# Altium footprint library PhilFootprint.PcbLib: 6 footprints
Each footprint in its own frame and in the unit in brackets; x right, y up, seen from the top. Pads: shape width x height; smd on the part's side, far side on the other; paste and mask are expansions set on the pad; w line width, h text height; cw(c..) or ccw(c..) is an arc to the next point about the centre after c.
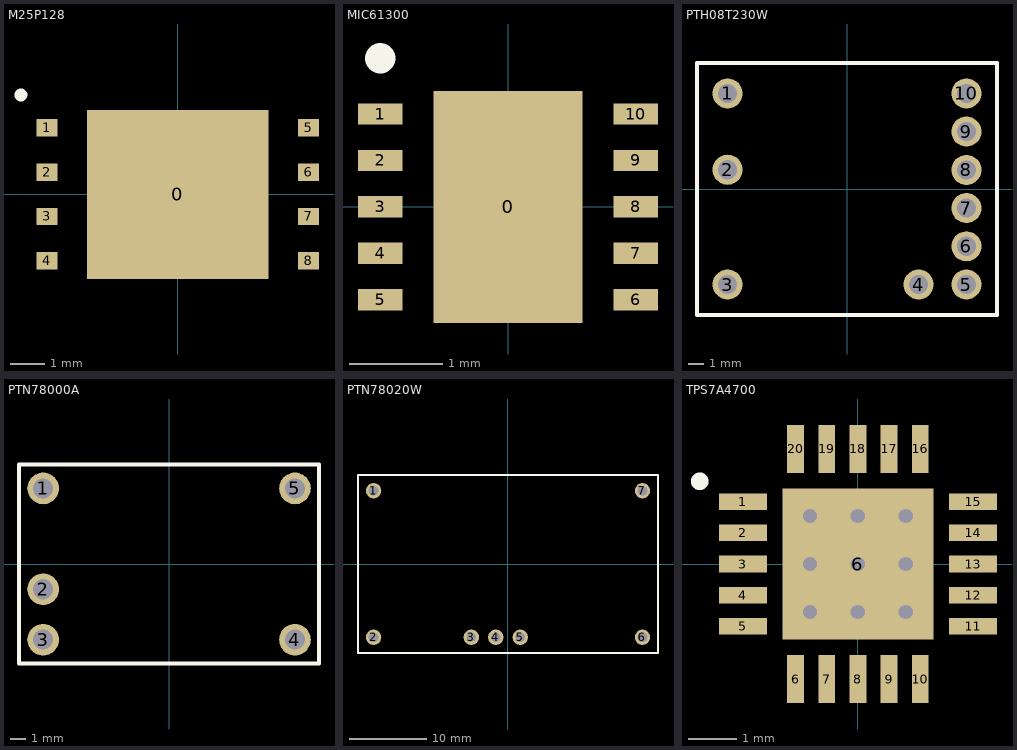
[diagram p0: the footprints below, top view; thin cyan lines are the x and y axes]

## M25P128 [mm]
pads (9):
  rect 5.2x4.85 smd: 0(0,0)
  rect 0.6x0.5 smd: 1(-3.75,1.905) 2(-3.75,0.635) 3(-3.75,-0.635) 4(-3.75,-1.905) 5(3.75,1.905) 6(3.75,0.635) 7(3.75,-0.635) 8(3.75,-1.905)
Top Overlay:
  circle w0.254: c-4.5,2.85 r0.056

## MIC61300 [mm]
pads (11):
  rect 1.6x2.5 smd: 0(0,0)
  rect 0.48x0.23 smd: 1(-1.375,1) 2(-1.375,0.5) 3(-1.375,0) 4(-1.375,-0.5) 5(-1.375,-1) 6(1.375,-1) 7(1.375,-0.5) 8(1.375,0) 9(1.375,0.5) 10(1.375,1)
Top Overlay:
  circle w0.254: c-1.375,1.6 r0.035

## PTH08T230W [mm]
pads (10):
  round 2 hole 1.27: 1(-7.94,6.352) 2(-7.94,1.282) 3(-7.94,-6.348) 4(4.76,-6.348) 5(7.94,-6.348) 6(7.94,-3.808) 7(7.94,-1.268) 8(7.94,1.272) 9(7.94,3.812) 10(7.94,6.352)
Top Overlay:
  lines w0.254: -9.97,-8.378 9.97,-8.378 9.97,8.382 -9.97,8.382 -9.97,-8.378
Mechanical 1:
  lines w0.254: -9.97,-8.382 9.97,-8.382 ; -7.94,8.382 -9.97,8.382 ; 1.714,8.382 -9.97,8.382 ; 9.97,6.352 9.97,8.382 -9.97,8.382
3D body: height 8.5, standoff 0, extent -9.97,-8.382 9.97,8.382

## PTN78000A [mm]
pads (5):
  round 2 hole 1.27: 1(-7.943,4.767) 2(-7.943,-1.587) 3(-7.943,-4.768) 4(7.942,-4.768) 5(7.942,4.767)
Top Overlay:
  lines w0.252: -9.463,-6.283 -9.463,6.287 ; 9.457,-6.283 9.457,6.287
  lines w0.254: -9.463,-6.283 9.457,-6.283 ; -9.463,6.287 9.457,6.287

## PTN78020W [mm]
pads (7):
  round 2 hole 1.27: 1(-17.464,9.523) 2(-17.464,-9.527) 3(-4.764,-9.527) 4(-1.584,-9.527) 5(1.596,-9.527) 6(17.476,-9.527) 7(17.476,9.523)
Top Overlay:
  lines w0.254: -19.494,-11.553 -19.494,11.557 19.496,11.557 19.496,-11.553 -19.494,-11.553
Mechanical 1:
  lines w0.254: -19.494,-11.557 -17.464,-11.557
3D body: height 9, standoff 0, extent -19.558,-11.557 19.431,11.557

## TPS7A4700 [mm]
pads (21):
  rect 1x0.35 smd: 1(-2.4,1.3) 2(-2.4,0.65) 3(-2.4,0) 4(-2.4,-0.65) 5(-2.4,-1.3) 11(2.4,-1.3) 12(2.4,-0.65) 13(2.4,0) 14(2.4,0.65) 15(2.4,1.3)
  rect 0.35x1 smd: 6(-1.3,-2.4) 7(-0.65,-2.4) 8(0,-2.4) 9(0.65,-2.4) 10(1.3,-2.4) 16(1.3,2.4) 17(0.65,2.4) 18(0,2.4) 19(-0.65,2.4) 20(-1.3,2.4)
  rect 3.15x3.15 smd: 6(0,0)
via 0,0 diameter 0.5 hole 0.3
via 0,1 diameter 0.5 hole 0.3
via 1,1 diameter 0.5 hole 0.3
via 1,0 diameter 0.5 hole 0.3
via -1,1 diameter 0.5 hole 0.3
via -1,0 diameter 0.5 hole 0.3
via -1,-1 diameter 0.5 hole 0.3
via 0,-1 diameter 0.5 hole 0.3
via 1,-1 diameter 0.5 hole 0.3
Top Overlay:
  circle w0.254: c-3.3,1.725 r0.056